# Altium schematic symbol library SW_5G_MEC_TH_NO_1LED.SchLib: 1 symbol
Pins are listed as number, name and electrical type; pins without a type are passive.

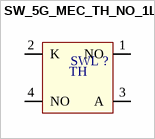
[diagram p0: symbol SW_5G_MEC_TH_NO_1LED]

## SW_5G_MEC_TH_NO_1LED
designator SWL ?  (value not drawn)
Switch 5G NO with 1 LED
pins: 1 NO, 2 K, 3 A, 4 NO
text: TH